# Altium integrated library EEUFM1H101E.IntLib: 1 symbol
Pins are listed as number, name and electrical type; pins without a type are passive.

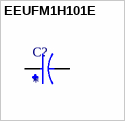
[diagram p0: symbol EEUFM1H101E]

## EEUFM1H101E
designator C?
Aluminum Electrolytic Capacitors, FM-A Series, 100uF +/- 20%, 50V, Radial lead type(8x11.5mm); MF: Panasonic; MP: EEUFM1H101E; SnapEDA_Link: https://www.snapeda.com/parts/EEUFM1H101E/Panasonic/view-part/?ref=snap; Package: RADIAL-2 Panasonic; Value: *; Check_prices: https://www.snapeda.com/parts/EEUFM1H101E/Panasonic/view-part/?ref=eda
footprint CAPPRD500W60D800H1150
pins: N, P